# Altium footprint library DIP781W56P254L950H533Q8N.PcbLib: 1 footprints
Each footprint in its own frame and in the unit in brackets; x right, y up, seen from the top. Pads: shape width x height; smd on the part's side, far side on the other; paste and mask are expansions set on the pad; w line width, h text height; cw(c..) or ccw(c..) is an arc to the next point about the centre after c.
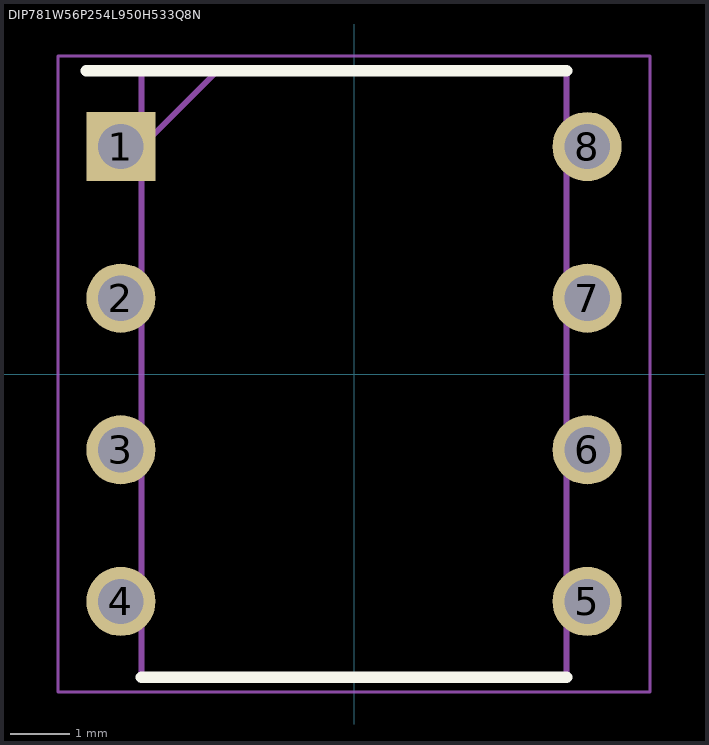
[diagram p0: the footprint, top view; thin cyan lines are the x and y axes]

## DIP781W56P254L950H533Q8N [mm]
pads (8):
  rect 1.159x1.159 / inner round 1.159 / far side rect 1.159x1.159 hole 0.759: 1(-3.905,3.81)
  round 1.159 hole 0.759: 2(-3.905,1.27) 3(-3.905,-1.27) 4(-3.905,-3.81) 5(3.905,-3.81) 6(3.905,-1.27) 7(3.905,1.27) 8(3.905,3.81)
L26-Silk Screen Top (Multiple PADS layers...):
  lines w0.2: -4.485,5.08 3.556,5.08 ; -3.556,-5.08 3.556,-5.08
L15 (Multiple PADS layers...):
  lines w0.1: -3.556,3.81 -2.286,5.08 ; -3.556,-5.08 3.556,-5.08 3.556,5.08 -3.556,5.08 -3.556,-5.08
L20:
  lines w0.05: -4.957,-5.33 4.957,-5.33 4.957,5.33 -4.957,5.33 -4.957,-5.33